# Altium schematic symbol library PCF8574N.SchLib: 1 symbol
Pins are listed as number, name and electrical type; pins without a type are passive.

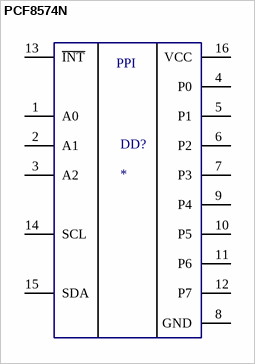
[diagram p0: symbol PCF8574N]

## PCF8574N
designator DD?
Remote 8-Bit I/O Expander for I2C-Bus; MF: Texas Instruments; MP: PCF8574N; DigiKey-Purchase-URL: https://snapeda.com/shop?store=DigiKey&id=271889; Mouser-Purchase-URL: https://snapeda.com/shop?store=Mouser&id=271889; Value: *; Availability: Unavailable; Price: None; Arrow_Electronics-Purchase-URL: https://snapeda.com/shop?store=Arrow+Electronics&id=271889; Texas_Instruments-Purchase-URL: https://snapeda.com/shop?store=Texas+Instruments&id=271889; Package: PDIP-16 Texas Instruments; SnapEDA_Link: https://www.snapeda.com/parts/PCF8574N/Texas%20Instruments/view-part/271889/?ref=snap
footprint DIP794W45P254L1969H508Q16
pins: 1 A0, 2 A1, 3 A2, 4 P0, 5 P1, 6 P2, 7 P3, 8 GND, 9 P4, 10 P5, 11 P6, 12 P7, 13 ~{INT}, 14 SCL, 15 SDA, 16 VCC
text: PPI